# EAGLE library part 690367282676 (library MasterPhonebot)
WR-MM Female SMT Connector with Polarization, 26 Pins=>Code : Con_BTB_MM_Female_SMT_690367282676 <http://katalog.we-online.de/media/thumbs2/eican/thb_Con_BTB_MM_Female_SMT_69036728xx76_pf2.jpg> Details see: http://katalog.we-online.de/en/em/6903_6728_xx_76 Created 2014-06-04, Karrer Zheng 2014 (C) Würth Elektronik
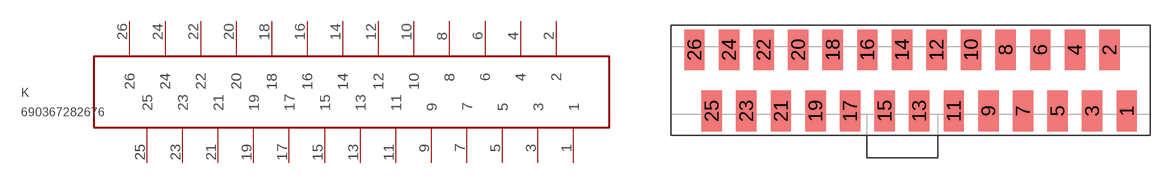
[diagram p2: symbol with the pads of 690367282676; footprint 690367282676]

Designator prefix K

## 690367282676  [690367282676]
1  1  pas
2  2  pas
3  3  pas
4  4  pas
5  5  pas
6  6  pas
7  7  pas
8  8  pas
9  9  pas
10  10  pas
11  11  pas
12  12  pas
13  13  pas
14  14  pas
15  15  pas
16  16  pas
17  17  pas
18  18  pas
19  19  pas
20  20  pas
21  21  pas
22  22  pas
23  23  pas
24  24  pas
25  25  pas
26  26  pas

## Footprint 690367282676 (pad centres in mm)
WR-MM Female SMT Connector with Polarization, 26 pins
smd 1.5 x 3: 1 15.875,-2.25; 2 14.605,2.25; 3 13.335,-2.25; 4 12.065,2.25; 5 10.795,-2.25; 6 9.525,2.25; 7 8.255,-2.25; 8 6.985,2.25; 9 5.715,-2.25; 10 4.445,2.25; 11 3.175,-2.25; 12 1.905,2.25; 13 0.635,-2.25; 14 -0.635,2.25; 15 -1.905,-2.25; 16 -3.175,2.25; 17 -4.445,-2.25; 18 -5.715,2.25; 19 -6.985,-2.25; 20 -8.255,2.25; 21 -9.525,-2.25; 22 -10.795,2.25; 23 -12.065,-2.25; 24 -13.335,2.25; 25 -14.605,-2.25; 26 -15.875,2.25